# Altium footprint library RcMPPTLib.PcbLib: 59 footprints (part 4 of 4)
Each footprint in its own frame and in the unit in brackets; x right, y up, seen from the top. Pads: shape width x height; smd on the part's side, far side on the other; paste and mask are expansions set on the pad; w line width, h text height; cw(c..) or ccw(c..) is an arc to the next point about the centre after c.
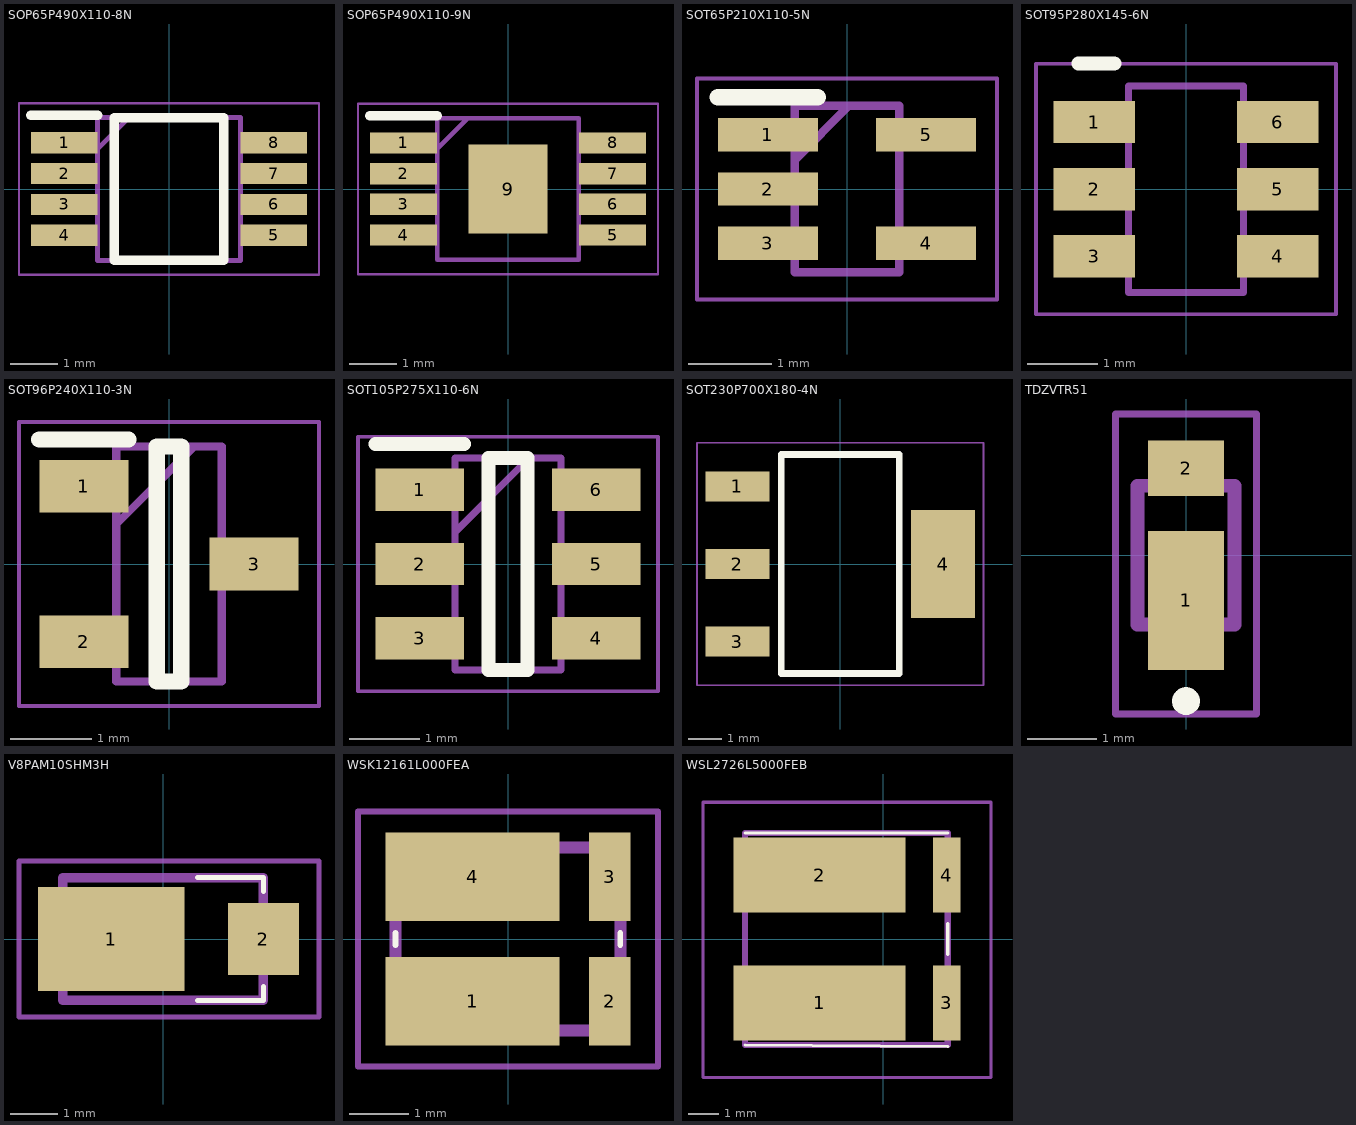
[diagram p3: the footprints below, top view; thin cyan lines are the x and y axes]

## SOP65P490X110-8N [mm]
pads (8):
  rect 1.4x0.45 smd: 1(-2.2,0.975) 2(-2.2,0.325) 3(-2.2,-0.325) 4(-2.2,-0.975) 5(2.2,-0.975) 6(2.2,-0.325) 7(2.2,0.325) 8(2.2,0.975)
Top Overlay:
  lines w0.2: -2.9,1.55 -1.5,1.55 ; -1.15,-1.5 1.15,-1.5 1.15,1.5 -1.15,1.5 -1.15,-1.5
Mechanical 13:
  lines w0.1: -1.5,0.85 -0.85,1.5 ; -1.5,-1.5 1.5,-1.5 1.5,1.5 -1.5,1.5 -1.5,-1.5
Mechanical 15:
  lines w0.05: -3.15,-1.8 3.15,-1.8 3.15,1.8 -3.15,1.8 -3.15,-1.8
3D body "LM358DGKR.stp": height 1.1, standoff 0, extent -2.45,-1.5 2.45,1.5

## SOP65P490X110-9N [mm]
pads (9):
  rect 1.425x0.45 smd: 1(-2.212,0.975) 2(-2.212,0.325) 3(-2.212,-0.325) 4(-2.212,-0.975) 5(2.212,-0.975) 6(2.212,-0.325) 7(2.212,0.325) 8(2.212,0.975)
  rect 1.68x1.88 smd: 9(0,0)
Top Overlay:
  lines w0.2: -2.925,1.55 -1.5,1.55
Mechanical 13:
  lines w0.1: -1.5,0.85 -0.85,1.5 ; -1.5,-1.5 -1.5,1.5 1.5,1.5 1.5,-1.5 -1.5,-1.5
Mechanical 15:
  lines w0.05: -3.175,-1.801 -3.175,1.801 3.175,1.801 3.175,-1.801 -3.175,-1.801
3D body "LTC4444EMS8E-5#PBF.stp": height 1.1, standoff 0, extent -2.45,-1.5 2.45,1.5

## SOT65P210X110-5N [mm]
pads (5):
  rect 1.2x0.4 smd: 1(-0.95,0.65) 2(-0.95,0) 3(-0.95,-0.65) 4(0.95,-0.65) 5(0.95,0.65)
Top Overlay:
  lines w0.2: -1.55,1.1 -0.35,1.1
Mechanical 13:
  lines w0.1: -0.625,0.35 0.025,1 ; -0.625,-1 0.625,-1 0.625,1 -0.625,1 -0.625,-1
Mechanical 15:
  lines w0.05: -1.8,-1.325 1.8,-1.325 1.8,1.325 -1.8,1.325 -1.8,-1.325
3D body "INA290A2IDCKT.stp": height 1.1, standoff 0, extent -1.05,-1 1.05,1

## SOT95P280X145-6N [mm]
pads (6):
  rect 1.15x0.6 smd: 1(-1.3,0.95) 2(-1.3,0) 3(-1.3,-0.95) 4(1.3,-0.95) 5(1.3,0) 6(1.3,0.95)
Top Overlay:
  lines w0.2: -1.524,1.778 -1.016,1.778
Mechanical 13:
  lines w0.1: -0.812,-1.462 0.812,-1.462 0.812,1.462 -0.812,1.462 -0.812,-1.462
Mechanical 15:
  lines w0.05: -2.125,-1.775 2.125,-1.775 2.125,1.775 -2.125,1.775 -2.125,-1.775
3D body "USBLC6-2SC6.stp": height 1.45, standoff 0, extent -1.4,-1.462 1.4,1.462

## SOT96P240X110-3N [mm]
pads (3):
  rect 1.1x0.65 smd: 1(-1.05,0.96) 2(-1.05,-0.96) 3(1.05,0)
Top Overlay:
  lines w0.2: -1.6,1.535 -0.5,1.535 ; -0.15,-1.45 -0.15,1.45 0.15,1.45 0.15,-1.45 -0.15,-1.45
Mechanical 13:
  lines w0.1: -0.65,0.49 0.31,1.45 ; -0.65,-1.45 -0.65,1.45 0.65,1.45 0.65,-1.45 -0.65,-1.45
Mechanical 15:
  lines w0.05: -1.85,-1.75 -1.85,1.75 1.85,1.75 1.85,-1.75 -1.85,-1.75
3D body "BAT54SQ-7-F.stp": height 1.1, standoff 0, extent -1.2,-1.45 1.2,1.45

## SOT105P275X110-6N [mm]
pads (6):
  rect 1.25x0.6 smd: 1(-1.25,1.05) 2(-1.25,0) 3(-1.25,-1.05) 4(1.25,-1.05) 5(1.25,0) 6(1.25,1.05)
Top Overlay:
  lines w0.2: -1.875,1.7 -0.625,1.7 ; -0.275,-1.5 0.275,-1.5 0.275,1.5 -0.275,1.5 -0.275,-1.5
Mechanical 13:
  lines w0.1: -0.75,0.45 0.3,1.5 ; -0.75,-1.5 0.75,-1.5 0.75,1.5 -0.75,1.5 -0.75,-1.5
Mechanical 15:
  lines w0.05: -2.125,-1.8 2.125,-1.8 2.125,1.8 -2.125,1.8 -2.125,-1.8
3D body "NCP1729SN35T1G.stp": height 1.1, standoff 0, extent -1.375,-1.5 1.375,1.5

## SOT230P700X180-4N [mm]
pads (4):
  rect 1.9x0.9 smd: 1(-3.05,2.3) 2(-3.05,0) 3(-3.05,-2.3)
  rect 1.9x3.2 smd: 4(3.05,0)
Top Overlay:
  lines w0.2: -1.75,-3.25 1.75,-3.25 1.75,3.25 -1.75,3.25 -1.75,-3.25
Mechanical 13:
  lines w0.1: -1.75,0.95 -1.75,3.25 ; 0.55,3.25 -1.75,3.25 ; -1.75,3.25 1.75,3.25 1.75,-3.25 -1.75,-3.25 -1.75,3.25
Mechanical 15:
  lines w0.05: -4.25,-3.6 4.25,-3.6 4.25,3.6 -4.25,3.6 -4.25,-3.6
3D body "AP2114H-3.3TRG1.stp": height 1.8, standoff 0, extent -3.5,-3.25 3.5,3.25

## TDZVTR51 [mm]
pads (2):
  rect 1.1x2 smd: 1(0,-0.65)
  rect 1.1x0.8 smd: 2(0,1.25)
Top Overlay:
  lines w0.2: 0,-2.2 cw(c0,-2.1) 0,-2 cw(c0,-2.1) 0,-2.2
Mechanical 13:
  lines w0.2: -0.7,-1 -0.7,1 0.7,1 0.7,-1 -0.7,-1
Mechanical 15:
  lines w0.1: -1.016,-2.286 -1.016,2.032 1.016,2.032 1.016,-2.286 -1.016,-2.286
3D body "YFZVFHTR10B.stp": height 0.9, standoff 0, extent -0.7,-1.54 0.7,1.57

## V8PAM10SHM3H [mm]
pads (2):
  rect 3.1x2.2 smd: 1(-1.095,0)
  rect 1.5x1.52 smd: 2(2.125,0)
Top Overlay:
  lines w0.1: 0.725,-1.3 2.125,-1.3 2.125,-1 ; 0.725,1.3 2.125,1.3 2.125,1
Mechanical 13:
  lines w0.2: -2.125,-1.3 2.125,-1.3 2.125,1.3 -2.125,1.3 -2.125,-1.3
Mechanical 15:
  lines w0.1: -3.048,-1.651 3.302,-1.651 3.302,1.651 -3.048,1.651 -3.048,-1.651
3D body "V8PAM10S-M3_H.stp": height 1.1, standoff 0, extent -2.425,-1.3 2.725,1.3

## WSK12161L000FEA [mm]
pads (4):
  rect 2.95x1.495 smd: 1(-0.6,-1.053) 4(-0.6,1.053)
  rect 0.7x1.495 smd: 2(1.725,-1.053) 3(1.725,1.053)
Top Overlay:
  lines w0.1: -1.905,-0.1 -1.905,0.1 ; 1.9,-0.1 1.9,0.1
Mechanical 13:
  lines w0.2: -1.905,-1.55 1.905,-1.55 1.905,1.55 -1.905,1.55 -1.905,-1.55
Mechanical 15:
  lines w0.1: -2.54,-2.159 2.54,-2.159 2.54,2.159 -2.54,2.159 -2.54,-2.159
3D body "CurrentShunt v2.step": height 1.51, standoff 0.02, extent -2.032,-1.747 1.977,1.747

## WSL2726L5000FEB [mm]
pads (4):
  rect 5.6x2.44 smd: 1(-2.067,-2.08) 2(-2.067,2.08)
  rect 0.89x2.44 smd: 3(2.067,-2.08) 4(2.067,2.08)
Top Overlay:
  lines w0.1: -4.5,-3.45 2.1,-3.5 ; -4.5,3.45 2.1,3.45 ; 2.1,-0.5 2.1,0.5
Mechanical 13:
  lines w0.2: -4.5,-3.45 2.1,-3.45 2.1,3.45 -4.5,3.45 -4.5,-3.45
Mechanical 15:
  lines w0.1: -5.867,-4.5 3.513,-4.5 3.513,4.45 -5.867,4.45 -5.867,-4.5
3D body "WSL2726L5000FEB.stp": height 3.01, standoff 0.06, extent -4.064,-3.45 2.536,3.45